# EAGLE library part BEAGLE_BONE_CAPE (library OpenMotics)
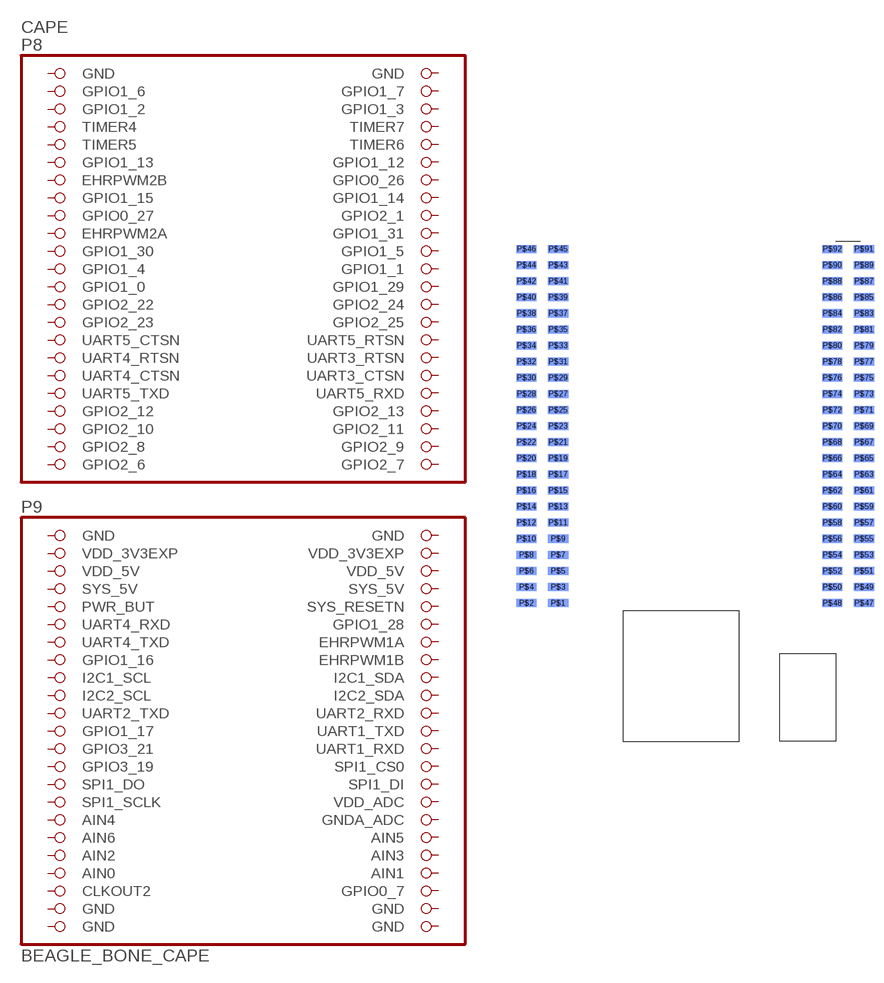
[diagram p0: symbol with the pads of BEAGLEBONECAPE; footprint BEAGLEBONECAPE]

Designator prefix CAPE

## BEAGLE_BONE_CAPE  [BEAGLEBONECAPE]
P$1  GND  pwr
P$2  GND  pwr
P$3  GPIO1_6  pwr
P$4  GPIO1_7  pwr
P$5  GPIO1_2  pas
P$6  GPIO1_3  pas
P$7  TIMER4  pas
P$8  TIMER7  pas
P$9  TIMER5  pas
P$10  TIMER6  pas
P$11  GPIO1_13  pas
P$12  GPIO1_12  pas
P$13  EHRPWM2B  pas
P$14  GPIO0_26  pas
P$15  GPIO1_15  pas
P$16  GPIO1_14  pas
P$17  GPIO0_27  pas
P$18  GPIO2_1  pas
P$19  EHRPWM2A  pas
P$20  GPIO1_31  pas
P$21  GPIO1_30  pas
P$22  GPIO1_5  pas
P$23  GPIO1_4  pas
P$24  GPIO1_1  pas
P$25  GPIO1_0  pas
P$26  GPIO1_29  pas
P$27  GPIO2_22  pas
P$28  GPIO2_24  pas
P$29  GPIO2_23  pas
P$30  GPIO2_25  pas
P$31  UART5_CTSN  pas
P$32  UART5_RTSN  pas
P$33  UART4_RTSN  pas
P$34  UART3_RTSN  pas
P$35  UART4_CTSN  pas
P$36  UART3_CTSN  pas
P$37  UART5_TXD  pas
P$38  UART5_RXD  pas
P$39  GPIO2_12  pas
P$40  GPIO2_13  pas
P$41  GPIO2_10  pas
P$42  GPIO2_11  pwr
P$43  GPIO2_8  pwr
P$44  GPIO2_9  pwr
P$45  GPIO2_6  pwr
P$46  GPIO2_7  pwr
P$47  GND  pwr
P$48  GND  pwr
P$49  VDD_3V3EXP  pwr
P$50  VDD_3V3EXP  pwr
P$51  VDD_5V  pwr
P$52  VDD_5V  pwr
P$53  SYS_5V  pas
P$54  SYS_5V  pas
P$55  PWR_BUT  pas
P$56  SYS_RESETN  pas
P$57  UART4_RXD  pas
P$58  GPIO1_28  pas
P$59  UART4_TXD  pas
P$60  EHRPWM1A  pas
P$61  GPIO1_16  pas
P$62  EHRPWM1B  pas
P$63  I2C1_SCL  pas
P$64  I2C1_SDA  pas
P$65  I2C2_SCL  pas
P$66  I2C2_SDA  pas
P$67  UART2_TXD  pas
P$68  UART2_RXD  pas
P$69  GPIO1_17  pas
P$70  UART1_TXD  pas
P$71  GPIO3_21  pas
P$72  UART1_RXD  pas
P$73  GPIO3_19  pas
P$74  SPI1_CS0  pas
P$75  SPI1_DO  pas
P$76  SPI1_DI  pas
P$77  SPI1_SCLK  pas
P$78  VDD_ADC  pas
P$79  AIN4  pas
P$80  GNDA_ADC  pas
P$81  AIN6  pas
P$82  AIN5  pas
P$83  AIN2  pas
P$84  AIN3  pwr
P$85  AIN0  pwr
P$86  AIN1  in
P$87  CLKOUT2  in
P$88  GPIO0_7  in
P$89  GND  in
P$90  GND  in
P$91  GND  in
P$92  GND  in

## Footprint BEAGLEBONECAPE (pad centres in mm)
smd 3.2 x 1.27 bottom: P$1 5.675,19.05; P$2 0.675,19.05; P$3 5.675,21.59; P$4 0.675,21.59; P$5 5.675,24.13; P$6 0.675,24.13; P$7 5.675,26.67; P$8 0.675,26.67; P$9 5.675,29.21; P$10 0.675,29.21; P$11 5.675,31.75; P$12 0.675,31.75; P$13 5.675,34.29; P$14 0.675,34.29; P$15 5.675,36.83; P$16 0.675,36.83; P$17 5.675,39.37; P$18 0.675,39.37; P$19 5.675,41.91; P$20 0.675,41.91; P$21 5.675,44.45; P$22 0.675,44.45; P$23 5.675,46.99; P$24 0.675,46.99; P$25 5.675,49.53; P$26 0.675,49.53; P$27 5.675,52.07; P$28 0.675,52.07; P$29 5.675,54.61; P$30 0.675,54.61; P$31 5.675,57.15; P$32 0.675,57.15; P$33 5.675,59.69; P$34 0.675,59.69; P$35 5.675,62.23; P$36 0.675,62.23; P$37 5.675,64.77; P$38 0.675,64.77; P$39 5.675,67.31; P$40 0.675,67.31; P$41 5.675,69.85; P$42 0.675,69.85; P$43 5.675,72.39; P$44 0.675,72.39; P$45 5.675,74.93; P$46 0.675,74.93; P$47 53.935,19.05; P$48 48.935,19.05; P$49 53.935,21.59; P$50 48.935,21.59; P$51 53.935,24.13; P$52 48.935,24.13; P$53 53.935,26.67; P$54 48.935,26.67; P$55 53.935,29.21; P$56 48.935,29.21; P$57 53.935,31.75; P$58 48.935,31.75; P$59 53.935,34.29; P$60 48.935,34.29; P$61 53.935,36.83; P$62 48.935,36.83; P$63 53.935,39.37; P$64 48.935,39.37; P$65 53.935,41.91; P$66 48.935,41.91; P$67 53.935,44.45; P$68 48.935,44.45; P$69 53.935,46.99; P$70 48.935,46.99; P$71 53.935,49.53; P$72 48.935,49.53; P$73 53.935,52.07; P$74 48.935,52.07; P$75 53.935,54.61; P$76 48.935,54.61; P$77 53.935,57.15; P$78 48.935,57.15; P$79 53.935,59.69; P$80 48.935,59.69; P$81 53.935,62.23; P$82 48.935,62.23; P$83 53.935,64.77; P$84 48.935,64.77; P$85 53.935,67.31; P$86 48.935,67.31; P$87 53.935,69.85; P$88 48.935,69.85; P$89 53.935,72.39; P$90 48.935,72.39; P$91 53.935,74.93; P$92 48.935,74.93